# Altium footprint library Inductors.PcbLib: 25 footprints (part 2 of 2)
Each footprint in its own frame and in the unit in brackets; x right, y up, seen from the top. Pads: shape width x height; smd on the part's side, far side on the other; paste and mask are expansions set on the pad; w line width, h text height; cw(c..) or ccw(c..) is an arc to the next point about the centre after c.
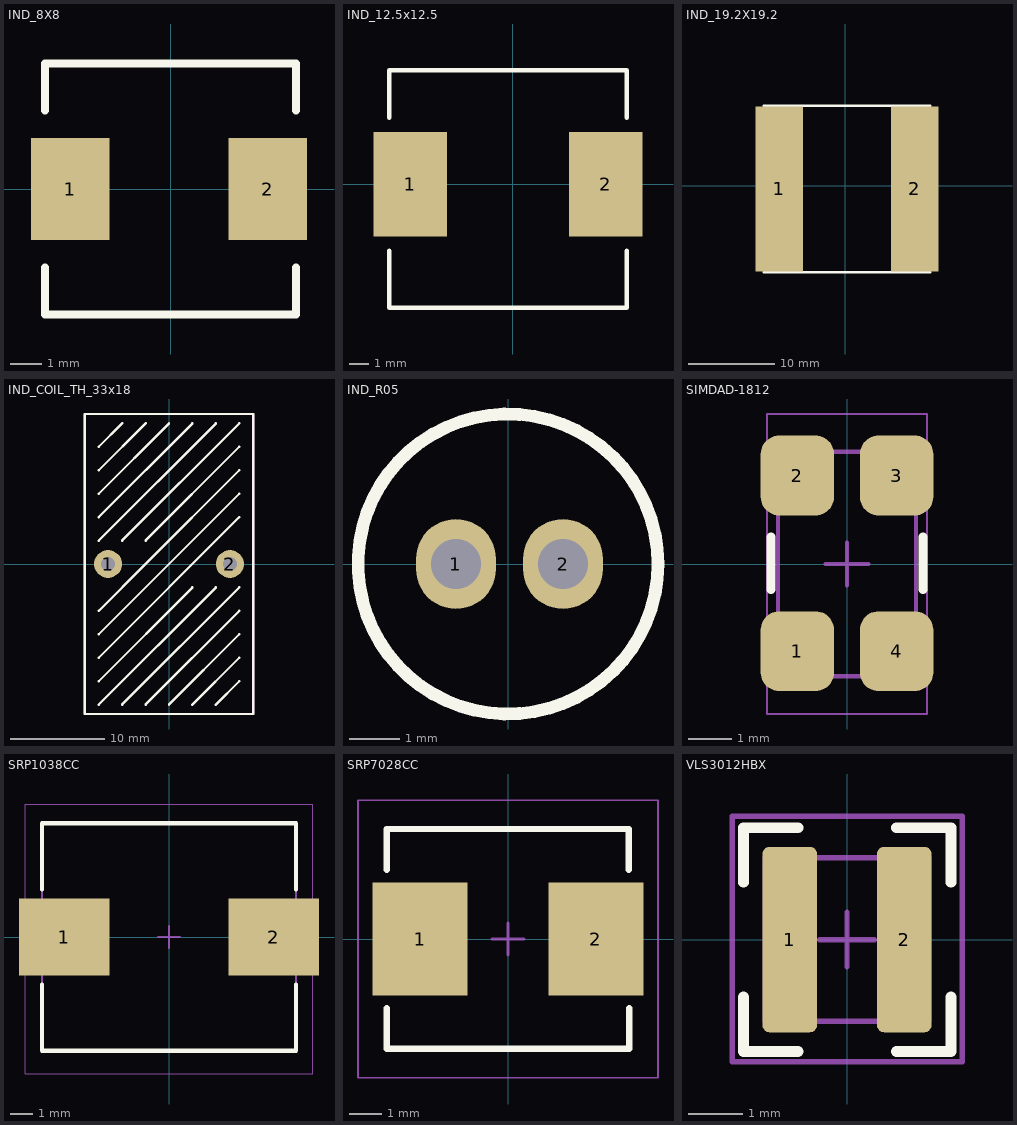
[diagram p1: the footprints below, top view; thin cyan lines are the x and y axes]

## IND_8X8 [mm]
pads (2):
  rect 2.5x3.25 smd: 1(-3.2,0) 2(3.1,0)
Top Overlay:
  lines w0.254: -4,-2.5 -4,-4 4,-4 4,-2.5 ; -4,2.5 -4,4 4,4 4,2.5
3D body "User Library-WE-DD-S.STEP": height 4, standoff 0, extent -3.65,-3.75 3.65,3.55

## IND_12.5x12.5 [mm]
pads (2):
  rect 3.85x5.5 smd: 1(-5.4,0) 2(4.9,0)
Top Overlay:
  lines w0.254: -6.5,-3.5 -6.5,-6.5 5.5,-6.5 6,-6.5 6,-3.5 ; -6.5,3.5 -6.5,6 5.5,6 6,6 6,3.5
3D body "IND-MSS1260.step": height 6.2, standoff 0.06, extent -6.45,-6.15 5.85,6.15

## IND_19.2X19.2 [mm]
pads (2):
  rect 5.5x19 smd: 1(-7.6,-0.4) 2(8,-0.4)
Top Overlay:
  lines w0.254: -9.4,-10 9.8,-10 ; -9.4,9.2 9.8,9.2

## IND_COIL_TH_33x18 [mm]
height 33
pads (2):
  round 3 hole 1.5: 1(-6.5,0) 2(6.5,0)
Top Overlay:
  lines w0.254: -7.5,-15 5,-2.5 ; -7.5,-12.5 2.5,-2.5 ; -7.5,-10 7.5,5 ; -7.5,-7.5 7.5,7.5 ; -7.5,-5 -2.5,0 7.5,10 ; -7.5,2.5 5,15 ; -7.5,5 2.5,15 ; -7.5,7.5 0,15 ; -7.5,10 -2.5,15 ; -7.5,12.5 -5,15 ; -5,-15 7.5,-2.5 ; -5,2.5 7.5,15 ; -2.5,-15 7.5,-5 ; -2.5,2.5 7.5,12.5 ; 0,-15 7.5,-7.5 ; 2.5,-15 7.5,-10 ; 5,-15 7.5,-12.5 ; -9,-16 -9,16 9,16 9,-16 -9,-16
Mechanical 1:
  lines w0.254: -9,-16 -9,16 9,16 9,-16 -9,-16
3D body "Triad Magnetics-FIT106-6.step": height 32.51, standoff -3.81, extent -8.89,-15.875 8.89,15.875

## IND_R05 [mm] "Radial Lead Inductors 5mm, between holes 2.1mm"
height 8
pads (2):
  oval 1.6x1.8 hole 1: 1(-1.04,0) 2(1.1,0)
Top Overlay:
  circle w0.254: c0,0 r3

## SIMDAD-1812 [mm] "Common-mode chokes, 2 leads, Body 5,20x3,20mm, IPC Medium Density"
height 3
pads (4):
  rrect50% 1.7x1.85 smd: 1(-1.15,-2.02) 2(-1.15,2.05) 3(1.15,2.05) 4(1.15,-2.02)
Top Overlay:
  lines w0.2: -1.76,-0.6 -1.76,0.63 ; 1.76,-0.6 1.76,0.63
Mechanical 13:
  lines w0.1: -1.6,-2.6 1.6,-2.6 1.6,2.6 -1.6,2.6 -1.6,-2.6
Mechanical 15:
  lines w0.05: -1.85,-3.475 -1.85,3.475 1.85,3.475 1.85,-3.475 -1.85,-3.475
  lines w0.1: -0.5,0 0.5,0 ; 0,-0.5 0,0.5
3D body "User Library-EIA 1812.step": height 3, standoff 0, extent -1.6,-2.499 1.6,2.499

## SRP1038CC [mm] "Bourns Shielded Inductor, 2-Leads, Body 11.25x10.15mm, IPC Medium Density"
height 4
pads (2):
  rect 4.1x3.5 smd: 1(-4.74,0) 2(4.74,0)
Top Overlay:
  lines w0.2: -5.75,-2.15 -5.75,-5.15 5.75,-5.15 5.75,-2.15 ; -5.75,2.15 -5.75,5.15 5.75,5.15 5.75,2.15
Mechanical 13:
  lines w0.1: -5.75,-5.15 5.75,-5.15 5.75,5.15 -5.75,5.15 -5.75,-5.15
Mechanical 15:
  lines w0.05: -6.5,-6.19 6.5,-6.19 6.5,6.01 -6.5,6.01 -6.5,-6.19
  lines w0.1: -0.5,0 0.5,0 ; 0,-0.5 0,0.5
3D body "3D_SRP1038CC SERIES(leadframe type).stp": height 3.86, standoff 0.05, extent -5.5,-5 5.5,5

## SRP7028CC [mm] "Bourns Shielded Inductor, 2-Leads, Body 7.45x6.75mm, IPC Medium Density"
height 3
pads (2):
  rect 2.95x3.5 smd: 1(-2.725,0) 2(2.725,0)
Top Overlay:
  lines w0.2: -3.765,-2.15 -3.765,-3.404 3.763,-3.404 3.763,-2.15 ; -3.76,2.15 -3.76,3.41 3.75,3.41 3.75,2.15
Mechanical 15:
  lines w0.05: -4.65,-4.3 -4.65,4.3 4.65,4.3 4.65,-4.3 -4.65,-4.3
  lines w0.1: -0.5,0 0.5,0 ; 0,-0.5 0,0.5
3D body "3D_SRP7028CC SERIES.stp": height 2.81, standoff 0, extent -3.65,-3.3 3.65,3.3

## VLS3012HBX [mm] "TDK Inductor, 2-Leads, Body 3,00x3,00mm, IPC Medium Density"
height 1.2
pads (2):
  rrect25% 1x3.4 smd mask+0.05: 1(-1.05,0) 2(1.05,0)
Top Overlay:
  lines w0.2: -1.9,-1.05 -1.9,-2.05 -0.9,-2.05 ; -1.9,1.05 -1.9,2.05 -0.9,2.05 ; 0.91,-2.05 1.91,-2.05 1.91,-1.05 ; 0.91,2.05 1.91,2.05 1.91,1.05
Mechanical 13:
  lines w0.1: -1.5,-1.5 -1.5,1.5 1.5,1.5 1.5,-1.5 -1.5,-1.5
Mechanical 15:
  lines w0.1: -0.5,0 0.5,0 ; 0,-0.5 0,0.5 ; -2.1,-2.24 -2.1,2.26 2.11,2.26 2.11,-2.24 -2.1,-2.24
3D body "User Library-vls3012hbx.step": height 1.19, standoff -0.01, extent -1.501,-1.509 1.503,1.509